# Altium footprint library EVP-BT5A4A000.PcbLib: 1 footprints
Each footprint in its own frame and in the unit in brackets; x right, y up, seen from the top. Pads: shape width x height; smd on the part's side, far side on the other; paste and mask are expansions set on the pad; w line width, h text height; cw(c..) or ccw(c..) is an arc to the next point about the centre after c.
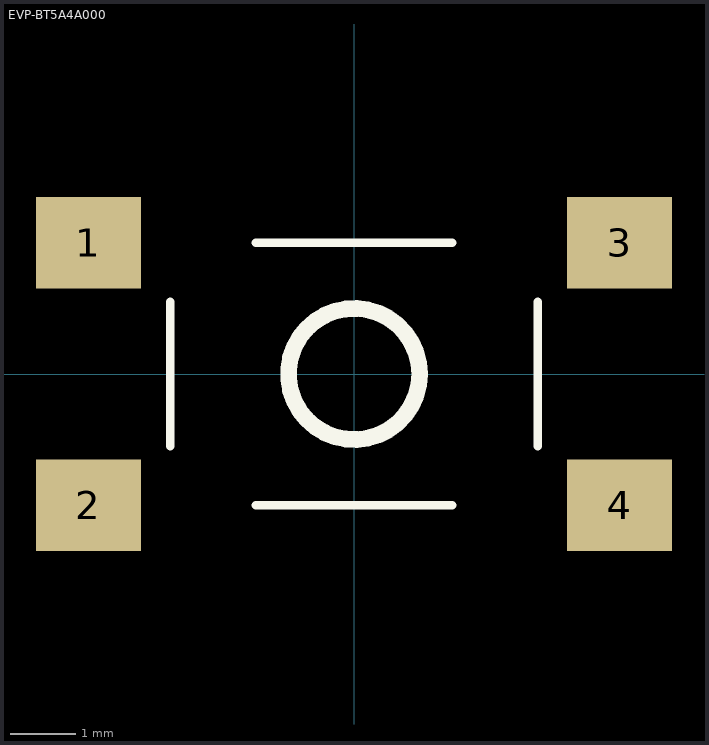
[diagram p0: the footprint, top view; thin cyan lines are the x and y axes]

## EVP-BT5A4A000 [mm] "6 mm Square Thin Type SMD"
pads (4):
  rect 1.6x1.4 smd: 1(-4.05,2) 2(-4.05,-2) 3(4.05,2) 4(4.05,-2)
Top Overlay:
  circle w0.254: c0,0 r1
  lines w0.127: -2.8,-1.1 -2.8,1.1 ; -1.5,-2 1.5,-2 ; -1.5,2 1.5,2 ; 2.8,-1.1 2.8,1.1
3D body "interruptor evpbt5a4a000.step": height 4.3, standoff 0, extent -4,-3.052 4,3.052